# EAGLE library part 10PIN (library 5051)
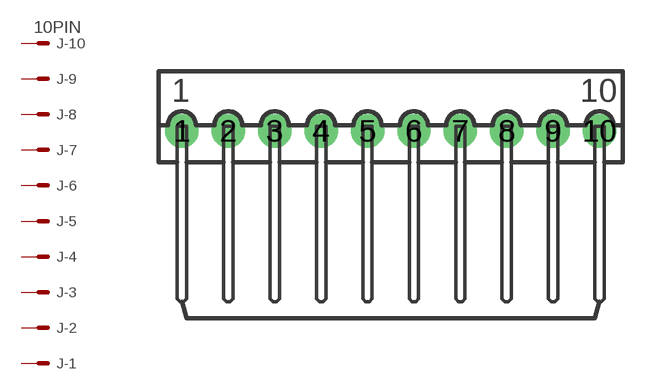
[diagram p1: symbol with the pads of 5046-10; footprint 5046-10]

Designator prefix J; gates -10=MV -9=M -8=M -7=M -6=M -5=M -4=M -3=M -2=M -1=M

## 10PIN  [5046-10]
1  -1:S  pas
2  -2:S  pas
3  -3:S  pas
4  -4:S  pas
5  -5:S  pas
6  -6:S  pas
7  -7:S  pas
8  -8:S  pas
9  -9:S  pas
10  -10:S  pas

## Footprint 5046-10 (pad centres in mm)
drill 1 pad 1.8: 1 -11.25,1.7; 2 -8.75,1.7; 3 -6.25,1.7; 4 -3.75,1.7; 5 -1.25,1.7; 6 1.25,1.7; 7 3.75,1.7; 8 6.25,1.7; 9 8.75,1.7; 10 11.25,1.7